# Altium schematic symbol library 50ohm_male_antenna_jack_RECEP20279P001EP01.SchLib: 2 symbols
Pins are listed as number, name and electrical type; pins without a type are passive.

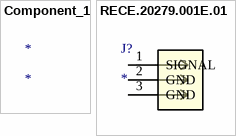
[diagram p0: symbols Component_1 to RECE.20279.001E.01]

## Component_1
designator *

## RECE.20279.001E.01
designator J?
No Description Available; Mfr_Name: Taoglas Limited; Type: Coaxial Connectors(RF) Assemblies; RefDes: RefDes
footprint CON3_RECE.20279.001E.01_TAL
pins: 1 SIGNAL, 2 GND, 3 GND